# EAGLE library part STM32C092CCT6 (library STM32C092CCT6)
Mainstream Arm Cortex-M0+ MCU with 256 Kbytes of Flash memory, 30 Kbytes RAM, 48 MHz CPU, 4x USART, timers, ADC, comm. I/F, 2-3.6V Source: Datasheet <https://www.st.com/resource/en/datasheet/stm32c091cb.pdf>
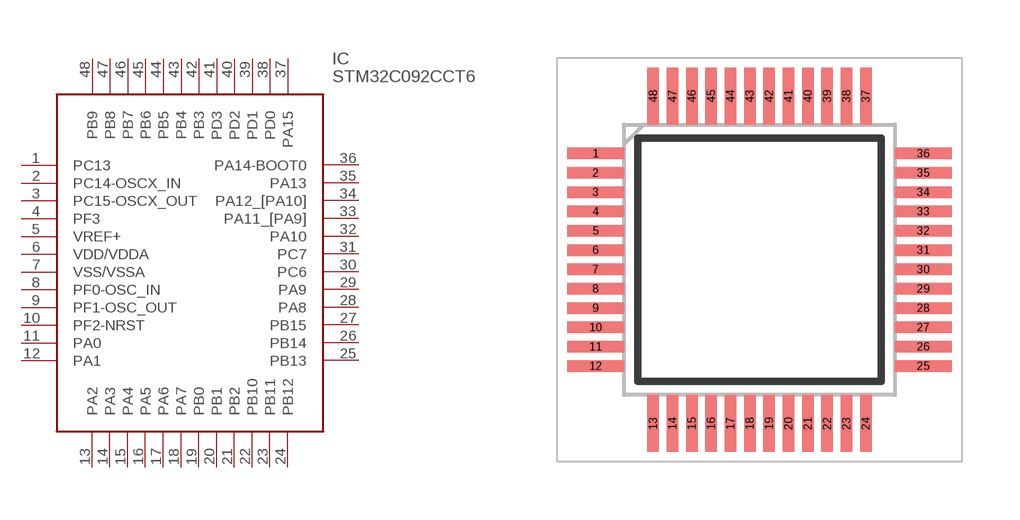
[diagram p0: symbol with the pads of QFP50P900X900X160-48N; footprint QFP50P900X900X160-48N]

Designator prefix IC

## STM32C092CCT6 (Description: Mainstream Arm Cortex-M0+ MCU with 256 Kbytes of Flash memory, 30 Kbytes RAM, 48 MHz CPU, 4x USART, timers, ADC, comm. I/F, 2-3.6V; Height: 1.6mm; Manufacturer_Name: STMicroelectronics; Manufacturer_Part_Number: STM32C092CCT6)  [QFP50P900X900X160-48N]
1  PC13
2  PC14-OSCX_IN
3  PC15-OSCX_OUT
4  PF3
5  VREF+
6  VDD/VDDA
7  VSS/VSSA
8  PF0-OSC_IN
9  PF1-OSC_OUT
10  PF2-NRST
11  PA0
12  PA1
13  PA2
14  PA3
15  PA4
16  PA5
17  PA6
18  PA7
19  PB0
20  PB1
21  PB2
22  PB10
23  PB11
24  PB12
25  PB13
26  PB14
27  PB15
28  PA8
29  PA9
30  PC6
31  PC7
32  PA10
33  PA11_[PA9]
34  PA12_[PA10]
35  PA13
36  PA14-BOOT0
37  PA15
38  PD0
39  PD1
40  PD2
41  PD3
42  PB3
43  PB4
44  PB5
45  PB6
46  PB7
47  PB8
48  PB9

## Footprint QFP50P900X900X160-48N (pad centres in mm)
LQFP 48 7x7x1.4 mm
smd 1.475 x 0.3: 1 -4.238,2.75; 2 -4.238,2.25; 3 -4.238,1.75; 4 -4.238,1.25; 5 -4.238,0.75; 6 -4.238,0.25; 7 -4.238,-0.25; 8 -4.238,-0.75; 9 -4.238,-1.25; 10 -4.238,-1.75; 11 -4.238,-2.25; 12 -4.238,-2.75; 25 4.238,-2.75; 26 4.238,-2.25; 27 4.238,-1.75; 28 4.238,-1.25; 29 4.238,-0.75; 30 4.238,-0.25; 31 4.238,0.25; 32 4.238,0.75; 33 4.238,1.25; 34 4.238,1.75; 35 4.238,2.25; 36 4.238,2.75
smd 0.3 x 1.475: 13 -2.75,-4.238; 14 -2.25,-4.238; 15 -1.75,-4.238; 16 -1.25,-4.238; 17 -0.75,-4.238; 18 -0.25,-4.238; 19 0.25,-4.238; 20 0.75,-4.238; 21 1.25,-4.238; 22 1.75,-4.238; 23 2.25,-4.238; 24 2.75,-4.238; 37 2.75,4.238; 38 2.25,4.238; 39 1.75,4.238; 40 1.25,4.238; 41 0.75,4.238; 42 0.25,4.238; 43 -0.25,4.238; 44 -0.75,4.238; 45 -1.25,4.238; 46 -1.75,4.238; 47 -2.25,4.238; 48 -2.75,4.238